# Altium footprint library Semicondutores_Ftp.PcbLib: 33 footprints (part 2 of 3)
Each footprint in its own frame and in the unit in brackets; x right, y up, seen from the top. Pads: shape width x height; smd on the part's side, far side on the other; paste and mask are expansions set on the pad; w line width, h text height; cw(c..) or ccw(c..) is an arc to the next point about the centre after c.
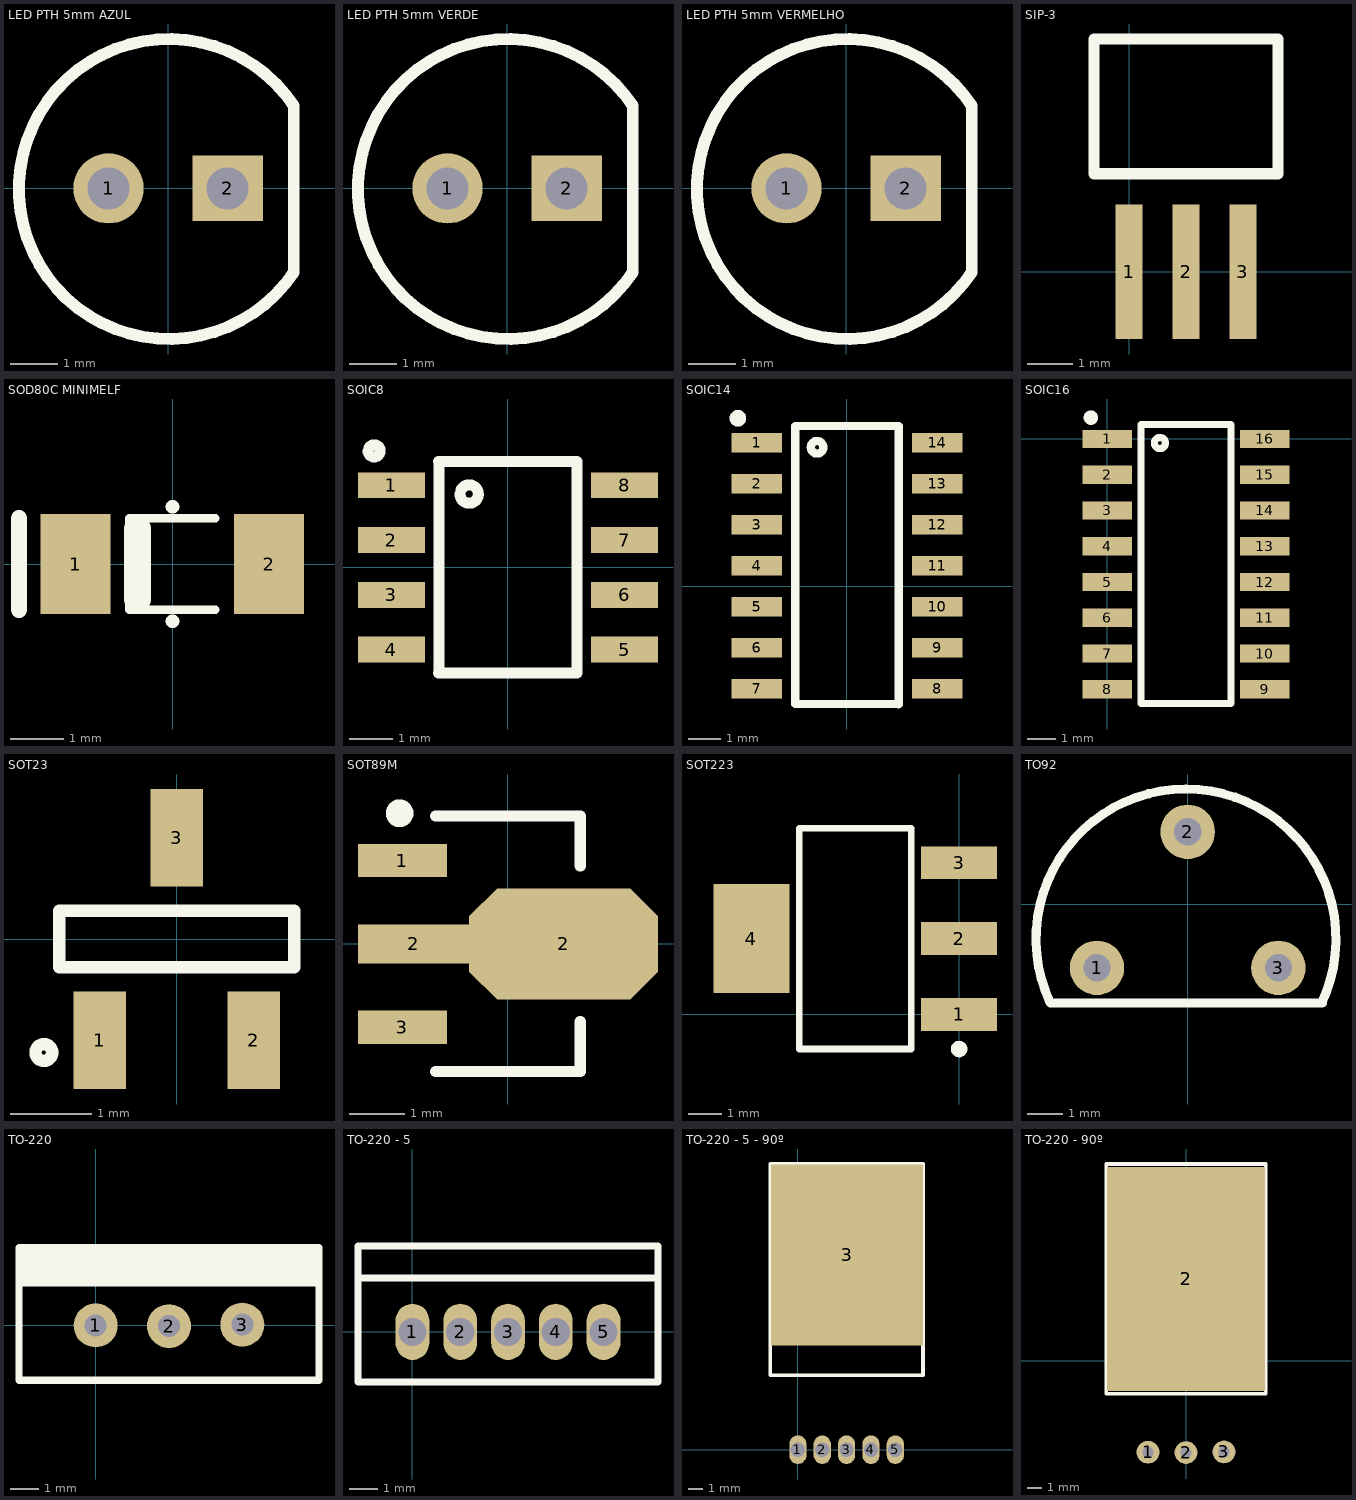
[diagram p1: the footprints below, top view; thin cyan lines are the x and y axes]

## LED PTH 5mm AZUL [mm] "LED PTH 5mm"
pads (2):
  round 1.5 hole 0.9: 1(-1.27,0)
  rect 1.5x1.4 hole 0.9: 2(1.27,0)
Top Overlay:
  lines w0.25: 2.68,-1.791 2.68,1.765
  lines w0.254: 2.68,1.765 ccw(c0.02,-0.014) 2.681,-1.791
3D body: height 12.41, standoff -2.39, extent -2.98,-3.01 2.44,3.01

## LED PTH 5mm VERDE [mm] "LED PTH 5mm"
pads (2):
  round 1.5 hole 0.9: 1(-1.27,0)
  rect 1.5x1.4 hole 0.9: 2(1.27,0)
Top Overlay:
  lines w0.25: 2.68,-1.791 2.68,1.765
  lines w0.254: 2.68,1.765 ccw(c0.02,-0.014) 2.681,-1.791
3D body: height 13.24, standoff -2.2, extent -3,-3 2.5,3

## LED PTH 5mm VERMELHO [mm] "LED PTH 5mm"
pads (2):
  round 1.5 hole 0.9: 1(-1.27,0)
  rect 1.5x1.4 hole 0.9: 2(1.27,0)
Top Overlay:
  lines w0.25: 2.68,-1.791 2.68,1.765
  lines w0.254: 2.68,1.765 ccw(c0.02,-0.014) 2.681,-1.791
3D body: height 13.24, standoff -2.2, extent -3,-3 2.5,3

## SIP-3 [mm]
pads (3):
  rect 0.6x3 smd: 1(0,0) 2(1.27,0) 3(2.54,0)
Top Overlay:
  lines w0.254: -0.78,2.185 3.32,2.185 3.32,5.185 -0.78,5.185 -0.78,2.185
3D body: height 1.52, standoff 0.02, extent -0.78,-1.467 3.32,5.183

## SOD80C MINIMELF [mm]
pads (2):
  rect 1.3x1.85 smd: 1(-1.81,0) 2(1.79,0)
Top Overlay:
  lines w0.152: -0.81,-0.85 0.79,-0.85 ; -0.81,-0.8 -0.81,0.8 ; -0.81,0.85 0.79,0.85
  lines w0.25: -0.01,-1.06 0,-1.06 ; -0.01,1.06 0,1.06
  lines w0.3: -2.86,-0.85 -2.86,0.85
  lines w0.5: -0.66,-0.65 -0.66,0.65
3D body: height 1.6, standoff 0, extent -1.88,-0.8 1.82,0.8

## SOIC8 [mm]
pads (8):
  rect 1.55x0.6 smd: 1(-2.69,1.9) 2(-2.69,0.63) 3(-2.69,-0.64) 4(-2.69,-1.91) 5(2.71,-1.91) 6(2.71,-0.64) 7(2.71,0.63) 8(2.71,1.9)
Top Overlay:
  lines w0.254: -3.23,2.695 ccw(c-3.09,2.695) -3.215,2.758 ; -1.6,-2.45 1.6,-2.45 ; -1.6,2.45 1.6,2.45 ; -1.59,-2.455 -1.59,2.445 ; -1.102,1.695 ccw(c-0.89,1.695) -1.08,1.79 ; 1.61,-2.455 1.61,2.445
3D body: height 1.75, standoff 0, extent -3,-2.45 3,2.45

## SOIC14 [mm]
pads (14):
  rect 1.55x0.6 smd: 1(-2.79,4.44) 2(-2.79,3.17) 3(-2.79,1.9) 4(-2.79,0.63) 5(-2.79,-0.64) 6(-2.79,-1.91) 7(-2.79,-3.18) 8(2.794,-3.18) 9(2.794,-1.91) 10(2.794,-0.64) 11(2.794,0.63) 12(2.794,1.9) 13(2.794,3.17) 14(2.794,4.44)
Top Overlay:
  lines w0.254: -3.504,5.194 ccw(c-3.373,5.194) -3.501,5.22 ; -1.6,4.94 -1.6,-3.65 1.6,-3.65 ; -1.6,4.95 1.6,4.95 1.6,-3.66 ; -1.118,4.294 ccw(c-0.923,4.294) -1.115,4.333
3D body: height 1.7, standoff 0, extent -3,-3.765 3,5.035

## SOIC16 [mm]
pads (16):
  rect 1.75x0.65 smd: 1(0,0) 2(0,-1.27) 3(0,-2.54) 4(0,-3.81) 5(0,-5.08) 6(0,-6.35) 7(0,-7.62) 8(0,-8.89) 9(5.584,-8.89) 10(5.584,-7.62) 11(5.584,-6.35) 12(5.584,-5.08) 13(5.584,-3.81) 14(5.584,-2.54) 15(5.584,-1.27) 16(5.584,0)
Top Overlay:
  lines w0.254: -0.714,0.754 ccw(c-0.583,0.754) -0.711,0.78 ; 1.672,-0.146 ccw(c1.867,-0.146) 1.675,-0.107 ; 1.19,-9.39 4.39,-9.39 4.39,0.51 1.19,0.51 1.19,-9.39
3D body: height 1.65, standoff 0, extent -0.25,-9.44 5.83,0.56

## SOT23 [mm] "Transistor"
pads (3):
  rect 0.65x1.2 smd: 1(-0.95,-1.25) 2(0.95,-1.25) 3(0,1.25)
Top Overlay:
  circle w0.152: c-1.64,-1.4 r0.103
  lines w0.152: -1.45,-0.35 -1.45,0.35 1.45,0.35 1.45,-0.35 -1.45,-0.35
3D body: height 1.08, standoff -0.02, extent -1.5,-1.25 1.5,1.25

## SOT89M [mm] "SOT89, 3-Leads, Body 4.5x2.4 mm, Pitch 1.5mm, Lead Span 4.1mm, IPC Low Density"
height 1.6
pads (4):
  rect 1.6x0.6 smd: 1(-1.9,1.5) 3(-1.9,-1.5)
  rect 2x0.7 smd: 2(-1.7,0)
  oct 3.4x2 smd: 2(1,0)
Top Overlay:
  circle w0.25: c-1.95,2.35 r0.125
  lines w0.2: -1.3,-2.3 1.3,-2.3 1.3,-1.4 ; -1.3,2.3 1.3,2.3 1.3,1.4
Mechanical 15:
  lines w0.1: -0.5,0 0.5,0 ; 0,-0.5 0,0.5
3D body: height 1.51, standoff 0, extent -2.362,-2.25 1.938,2.25

## SOT223 [mm] "LM1117 SOT223, 4-Leads, Body 6.5x3.5mm, Pitch 2.3mm, Lead Span 7mm, IPC Low Density"
height 1.8
pads (4):
  rect 2.3x1 smd: 1(0,0) 2(0,2.3) 3(0,4.6)
  rect 2.3x3.3 smd: 4(-6.3,2.3)
Top Overlay:
  circle w0.25: c0,-1.05 r0.125
  lines w0.2: -4.85,-1.05 -4.85,5.65 -1.45,5.65 -1.45,-1.05 -4.85,-1.05
3D body: height 1.65, standoff -0.03, extent -6.782,-0.964 0.178,5.536

## TO92 [mil]
pads (3):
  round 60 hole 30: 1(-100,-70) 2(0,80) 3(100,-70)
Top Overlay:
  lines w10: -151.5,-108.88 148.3,-108.88 ; -151.42,-108.82 cw(c-1.9,-38.21) 147.79,-108.45
3D body: height 381.89, standoff -106.3, extent -110.08,-78.9 110,90
3D body: height 381.89, standoff -106.3, extent -110.08,-78.9 110,90

## TO-220 [mil]
pads (3):
  round 60 hole 30: 1(0,0) 2(100,-0.98) 3(200,0.98)
Top Overlay:
  rectangle: -104.72,53.35 304.72,105.31
  lines w10: -104.72,105.31 -104.72,-75 304.72,-75 304.72,105.31 ; -104.72,106.1 304.72,106.1
3D body: height 740.65, standoff -190.94, extent -95.28,-84.06 295.27,94.5

## TO-220 - 5 [mm]
pads (5):
  oval 1.2x2 hole 1: 1(0,0) 2(1.7,0) 3(3.4,0) 4(5.1,0) 5(6.8,0)
Top Overlay:
  lines w0.254: -1.935,-1.782 8.735,-1.782 ; -1.935,1.91 8.735,1.91 ; -1.935,3.05 8.735,3.05 ; -1.934,-1.778 -1.934,1.909 ; -1.934,1.911 -1.934,3.048 ; 8.734,-1.778 8.734,1.911 8.734,3.048
3D body: height 16, standoff -11.82, extent -1.651,-1.84 8.509,3.11

## TO-220 - 5 - 90º [mm]
pads (6):
  oval 1.2x2 hole 1: 1(0,0) 2(1.7,0) 3(3.4,0) 4(5.1,0) 5(6.8,0)
  rect 10.6x12.6 smd: 3(3.429,13.589)
Top Overlay:
  lines w0.254: -1.935,5.203 8.735,5.203 ; -1.935,14.102 8.735,14.102 ; -1.934,5.203 -1.935,19.941 8.735,19.941 8.734,5.203
3D body: height 4.56, standoff -5.94, extent -1.653,-0.305 8.509,19.863

## TO-220 - 90º [mil]
pads (4):
  round 60 hole 30: 1(-100,-241.52) 2(0,-242.5) 3(100,-240.53)
  rect 417.32x590.55 smd: 2(0,215)
Top Overlay:
  lines w10: -210.04,-87.66 210.04,-87.66 ; -210.04,287.7 210.04,287.7 ; -210.01,-87.66 -210.04,517.58 210.04,517.58 210.01,-87.66
3D body: height 165.35, standoff -118.11, extent -200,-253.66 200,513.66